# EAGLE library part EDP-40PIN-ACES (library LCD Connectors)
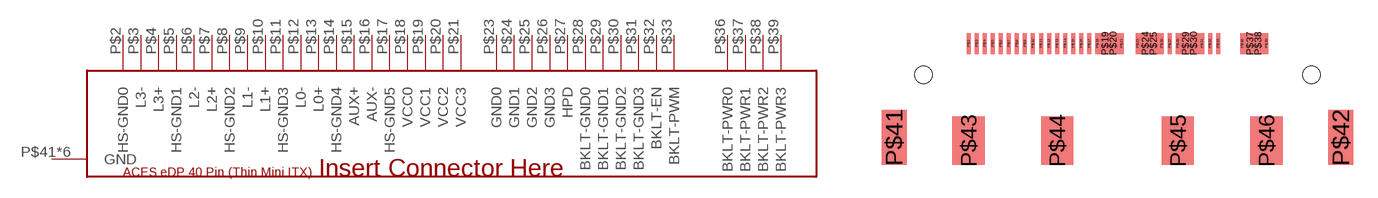
[diagram p2: symbol with the pads of ACES-50203-040; footprint ACES-50203-040]

Designator prefix F

## EDP-40PIN-ACES  [ACES-50203-040]
P$2  HS-GND0  hiz
P$3  L3-  hiz
P$4  L3+  hiz
P$5  HS-GND1  hiz
P$6  L2-  hiz
P$7  L2+  hiz
P$8  HS-GND2  hiz
P$9  L1-  hiz
P$10  L1+  hiz
P$11  HS-GND3  hiz
P$12  L0-  hiz
P$13  L0+  hiz
P$14  HS-GND4  hiz
P$15  AUX+  hiz
P$16  AUX-  hiz
P$17  HS-GND5  hiz
P$18  VCC0  pwr
P$19  VCC1  pwr
P$20  VCC2  pwr
P$21  VCC3  pwr
P$23  GND0  pwr
P$24  GND1  pwr
P$25  GND2  pwr
P$26  GND3  pwr
P$27  HPD
P$28  BKLT-GND0  pwr
P$29  BKLT-GND1  pwr
P$30  BKLT-GND2  pwr
P$31  BKLT-GND3  pwr
P$32  BKLT-EN
P$33  BKLT-PWM
P$36  BKLT-PWR0  pwr
P$37  BKLT-PWR1  pwr
P$38  BKLT-PWR2  pwr
P$39  BKLT-PWR3  pwr
P$41  GND  pwr
P$42  GND  pwr
P$43  GND  pwr
P$44  GND  pwr
P$45  GND  pwr
P$46  GND  pwr

## Footprint ACES-50203-040 (pad centres in mm)
smd 0.25 x 1.3: P$2 -9.25,-0.65; P$3 -8.75,-0.65; P$4 -8.25,-0.65; P$5 -7.75,-0.65; P$6 -7.25,-0.65; P$7 -6.75,-0.65; P$8 -6.25,-0.65; P$9 -5.75,-0.65; P$10 -5.25,-0.65; P$11 -4.75,-0.65; P$12 -4.25,-0.65; P$13 -3.75,-0.65; P$14 -3.25,-0.65; P$15 -2.75,-0.65; P$16 -2.25,-0.65; P$17 -1.75,-0.65; P$18 -1.25,-0.65; P$21 0.25,-0.65; P$23 1.25,-0.65; P$26 2.75,-0.65; P$27 3.25,-0.65; P$28 3.75,-0.65; P$31 5.25,-0.65; P$32 5.75,-0.65; P$33 6.25,-0.65; P$36 7.75,-0.65; P$39 9.25,-0.65
smd 1.25 x 1.3: P$19 -0.75,-0.65; P$20 -0.25,-0.65; P$24 1.75,-0.65; P$25 2.25,-0.65; P$29 4.25,-0.65; P$30 4.75,-0.65; P$37 8.25,-0.65; P$38 8.75,-0.65
smd 1.55 x 3.4: P$41 -13.875,-6.5; P$42 13.875,-6.5
smd 2 x 3: P$43 -9.25,-6.7; P$44 -3.75,-6.7; P$45 3.75,-6.7; P$46 9.25,-6.7
hole 1.1 at 12.05,-2.6
hole 1.1 at -12.05,-2.6